# Altium footprint library connector.PcbLib: 180 footprints (part 4 of 12)
Each footprint in its own frame and in the unit in brackets; x right, y up, seen from the top. Pads: shape width x height; smd on the part's side, far side on the other; paste and mask are expansions set on the pad; w line width, h text height; cw(c..) or ccw(c..) is an arc to the next point about the centre after c.
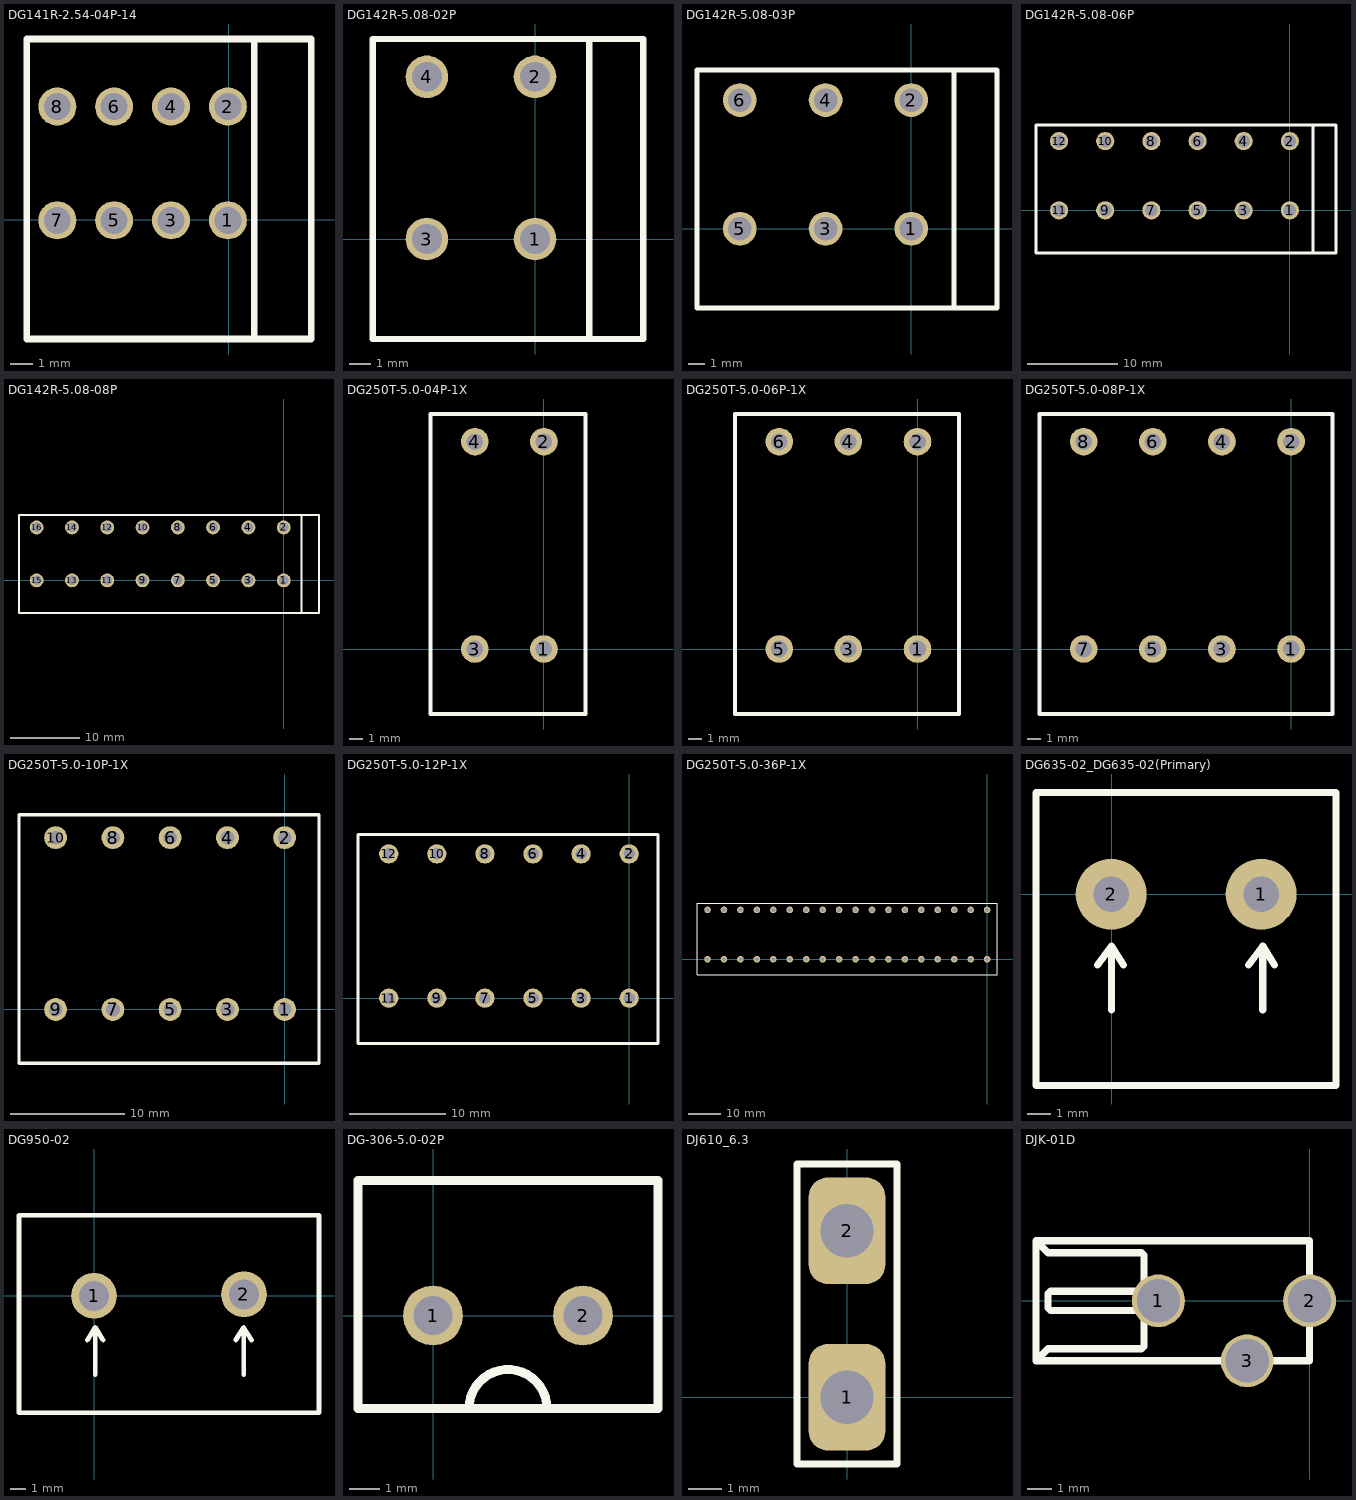
[diagram p3: the footprints below, top view; thin cyan lines are the x and y axes]

## DG141R-2.54-04P-14 [mm]
pads (8):
  round 1.7 hole 1.2: 1(-0.03,-0.03) 2(-0.03,5.05) 3(-2.57,-0.03) 4(-2.57,5.05) 5(-5.11,-0.03) 6(-5.11,5.05) 7(-7.65,-0.03) 8(-7.65,5.05)
Top Overlay:
  lines w0.3: 1.15,-5.33 1.15,8.07 ; -9.01,-5.33 -9.01,8.07 3.69,8.07 3.69,-5.33 -9.01,-5.33

## DG142R-5.08-02P [mm]
pads (4):
  round 2 hole 1.4: 1(0,0) 2(0,7.62) 3(-5.08,0) 4(-5.08,7.62)
Top Overlay:
  lines w0.3: 2.54,-4.699 2.54,9.398 ; -7.62,-4.699 -7.62,9.398 5.08,9.398 5.08,-4.699 -7.62,-4.699

## DG142R-5.08-03P [mm]
pads (6):
  round 2 hole 1.4: 1(0,0) 2(0,7.62) 3(-5.08,0) 4(-5.08,7.62) 5(-10.16,0) 6(-10.16,7.62)
Top Overlay:
  lines w0.3: 2.54,-4.699 2.54,9.398 ; -12.7,-4.699 -12.7,9.398 5.08,9.398 5.08,-4.699 -12.7,-4.699

## DG142R-5.08-06P [mm]
pads (12):
  round 2 hole 1.4: 1(0,0) 2(0,7.62) 3(-5.08,0) 4(-5.08,7.62) 5(-10.16,0) 6(-10.16,7.62) 7(-15.24,0) 8(-15.24,7.62) 9(-20.32,0) 10(-20.32,7.62) 11(-25.4,0) 12(-25.4,7.62)
Top Overlay:
  lines w0.3: 2.54,-4.699 2.54,9.398 ; -27.94,-4.699 -27.94,9.398 5.08,9.398 5.08,-4.699 -27.94,-4.699

## DG142R-5.08-08P [mm]
pads (16):
  round 2 hole 1.4: 1(0,0) 2(0,7.62) 3(-5.08,0) 4(-5.08,7.62) 5(-10.16,0) 6(-10.16,7.62) 7(-15.24,0) 8(-15.24,7.62) 9(-20.32,0) 10(-20.32,7.62) 11(-25.4,0) 12(-25.4,7.62) 13(-30.48,0) 14(-30.48,7.62) 15(-35.56,0) 16(-35.56,7.62)
Top Overlay:
  lines w0.3: 2.54,-4.699 2.54,9.398 ; -38.1,-4.699 -38.1,9.398 5.08,9.398 5.08,-4.699 -38.1,-4.699

## DG250T-5.0-04P-1X [mm]
pads (4):
  round 2 hole 1.2: 1(0,0) 2(0,15) 3(-5,0) 4(-5,15)
Top Overlay:
  lines w0.3: -8.2,-4.7 3,-4.7 3,17 -8.2,17 -8.2,-4.7

## DG250T-5.0-06P-1X [mm]
pads (6):
  round 2 hole 1.2: 1(0,0) 2(0,15) 3(-5,0) 4(-5,15) 5(-10,0) 6(-10,15)
Top Overlay:
  lines w0.3: -13.2,-4.7 3,-4.7 3,17 -13.2,17 -13.2,-4.7

## DG250T-5.0-08P-1X [mm]
pads (8):
  round 2 hole 1.2: 1(0,0) 2(0,15) 3(-5,0) 4(-5,15) 5(-10,0) 6(-10,15) 7(-15,0) 8(-15,15)
Top Overlay:
  lines w0.3: -18.2,-4.7 -18.2,17 3,17 3,-4.7 -18.2,-4.7

## DG250T-5.0-10P-1X [mm]
pads (10):
  round 2 hole 1.2: 1(0,0) 2(0,15) 3(-5,0) 4(-5,15) 5(-10,0) 6(-10,15) 7(-15,0) 8(-15,15) 9(-20,0) 10(-20,15)
Top Overlay:
  lines w0.3: -23.2,-4.7 3,-4.7 3,17 -23.2,17 -23.2,-4.7

## DG250T-5.0-12P-1X [mm]
pads (12):
  round 2 hole 1.2: 1(0,0) 2(0,15) 3(-5,0) 4(-5,15) 5(-10,0) 6(-10,15) 7(-15,0) 8(-15,15) 9(-20,0) 10(-20,15) 11(-25,0) 12(-25,15)
Top Overlay:
  lines w0.3: -28.2,-4.7 -28.2,17 3,17 3,-4.7 -28.2,-4.7

## DG250T-5.0-36P-1X [mm]
pads (36):
  round 2 hole 1.2: 1(0,0) 2(0,15) 3(-5,0) 4(-5,15) 5(-10,0) 6(-10,15) 7(-15,0) 8(-15,15) 9(-20,0) 10(-20,15) 11(-25,0) 12(-25,15) 13(-30,0) 14(-30,15) 15(-35,0) 16(-35,15) 17(-40,0) 18(-40,15) 19(-45,0) 20(-45,15) 21(-50,0) 22(-50,15) 23(-55,0) 24(-55,15) 25(-60,0) 26(-60,15) 27(-65,0) 28(-65,15) 29(-70,0) 30(-70,15) 31(-75,0) 32(-75,15) 33(-80,0) 34(-80,15) 35(-85,0) 36(-85,15)
Top Overlay:
  lines w0.3: -88.2,-4.7 -88.2,17 3,17 3,-4.7 -88.2,-4.7

## DG635-02_DG635-02(Primary) [mm]
pads (2):
  round 3 hole 1.5: 1(6.33,0) 2(-0.02,0)
Top Overlay:
  lines w0.3: -0.6,-3 0,-2.2 ; 0,-4.9 0,-2.2 ; 0.5,-3 0,-2.2 ; 5.8,-3 6.4,-2.2 ; 6.4,-4.9 6.4,-2.2 ; 6.9,-3 6.4,-2.2 ; -3.2,-8.1 -3.2,4.3 9.5,4.3 9.5,-8.1 -3.2,-8.1

## DG950-02 [mm]
pads (2):
  round 2.9 hole 1.9: 1(0,0) 2(9.5,0.1)
Top Overlay:
  lines w0.3: -0.42,-2.8 0.08,-2 ; 0.08,-5 0.08,-2 ; 0.58,-2.8 0.08,-2 ; 8.98,-2.8 9.48,-2 ; 9.48,-5 9.48,-2 ; 9.98,-2.8 9.48,-2 ; -4.75,-7.4 -4.75,5.1 14.25,5.1 14.25,-7.4 -4.75,-7.4

## DG-306-5.0-02P [mm]
pads (2):
  round 2 hole 1.3: 1(0,0) 2(5,0)
Top Overlay:
  lines w0.3: 1.2,-3.1 cw(c2.5,-3.1) 3.8,-3.1 ; -2.5,-3.1 -2.5,4.5 7.5,4.5 7.5,-3.1 -2.5,-3.1

## DJ610_6.3 [mm]
pads (2):
  rrect50% 2.3x3.2 hole 1.6: 1(0,0) 2(0,5)
Top Overlay:
  lines w0.2: -1.5,-2 -1.5,7 1.5,7 1.5,-2 -1.5,-2
3D body "User Library-DJ610 6_3 (TA-M).step": height 10, standoff -3.5, extent -0.4,-1.475 0.4,6.525

## DJK-01D [mm]
pads (3):
  round 2.2 hole 1.8: 1(-6.3,0) 2(0,0) 3(-2.6,-2.5)
Top Overlay:
  lines w0.3: -6.9,-0.4 -8.7,-0.4 -10.8,-0.4 -10.9,-0.3 -10.9,0.3 -10.8,0.4 -8.7,0.4 -6.9,0.4 ; -11.4,-2.5 -11.4,2.5 ; -11.4,-2.5 -10.9,-2 -10.4,-2 -8.8,-2 -7,-2 -6.9,-1.9 -6.9,0.8 -6.9,1.9 -7,2 -8.8,2 -10.4,2 -10.9,2 -11.4,2.5 ; -11.4,-2.5 -1.2,-2.5 0,-2.5 0,2.5 -11.4,2.5